# Altium footprint library RT8120.PcbLib: 1 footprints
Each footprint in its own frame and in the unit in brackets; x right, y up, seen from the top. Pads: shape width x height; smd on the part's side, far side on the other; paste and mask are expansions set on the pad; w line width, h text height; cw(c..) or ccw(c..) is an arc to the next point about the centre after c.
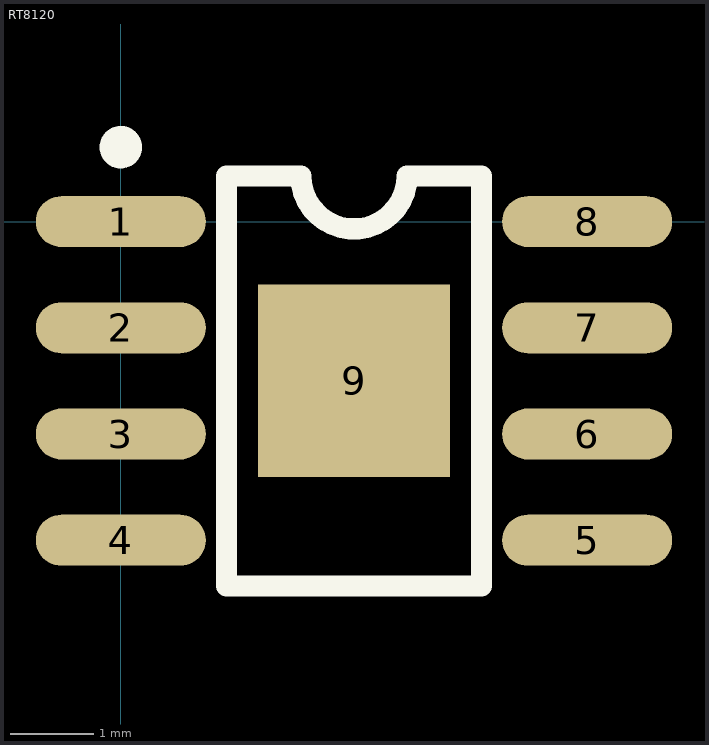
[diagram p0: the footprint, top view; thin cyan lines are the x and y axes]

## RT8120 [mil]
pads (9):
  oval 80x24 smd: 1(0,0) 2(0,-50) 3(0,-100) 4(0,-150) 5(219.53,-150) 6(219.53,-100) 7(219.53,-50) 8(219.53,0)
  rect 90.55x90.55 smd: 9(109.76,-75)
Top Overlay:
  circle w10: c0,35 r5
  lines w10: 49.76,-171.5 169.76,-171.5 169.76,21.5 134.76,21.5 cw(c109.76,21.5) 84.76,21.5 49.76,21.5 49.76,-171.5
3D body: height 62.99, standoff 0, extent -9.17,-173.82 228.69,23.82